# EAGLE library part STM32F051R (library ELL-i-DigitalIC)
STM32F051 in LQPF64 package. STM32F0-series Cortex-M0 microcontroller in 64 lead package. Datasheet <http://www.st.com/web/en/resource/technical/document/datasheet/DM00039193.pdf> (DM00039193.pdf) .
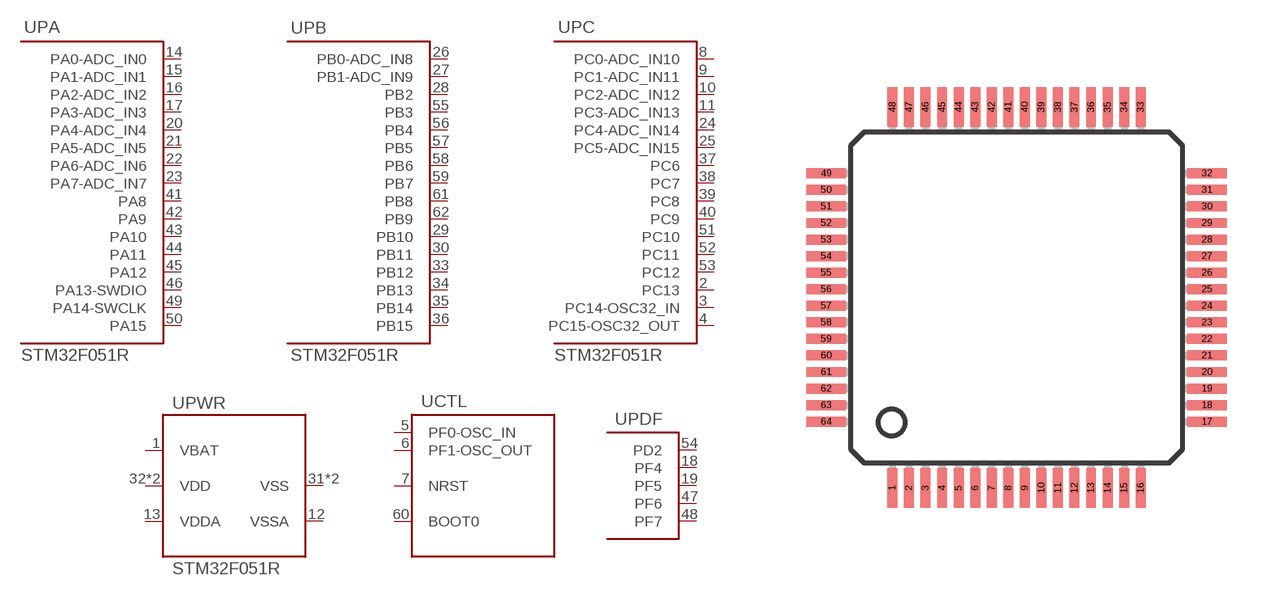
[diagram p4: symbol with the pads of LQFP64; footprint LQFP64]

Designator prefix U; gates PA=STM32-PA PB=STM32-PB PC=STM32-PC PWR=STM32FXXX-PWR CTL=STM32F0XX-CTL PDF=STM32-PDF-LQFP64

## STM32F051R4T (FLASH: 16K), STM32F051R6T (FLASH: 32K), STM32F051R8T (FLASH: 64K)  [LQFP64]
1  PWR:VBAT  pwr
2  PC:PC13
3  PC:PC14-OSC32_IN
4  PC:PC15-OSC32_OUT
5  CTL:PF0-OSC_IN
6  CTL:PF1-OSC_OUT
7  CTL:NRST
8  PC:PC0-ADC_IN10
9  PC:PC1-ADC_IN11
10  PC:PC2-ADC_IN12
11  PC:PC3-ADC_IN13
12  PWR:VSSA  pwr
13  PWR:VDDA  pwr
14  PA:PA0-ADC_IN0
15  PA:PA1-ADC_IN1
16  PA:PA2-ADC_IN2
17  PA:PA3-ADC_IN3
18  PDF:PF4
19  PDF:PF5
20  PA:PA4-ADC_IN4
21  PA:PA5-ADC_IN5
22  PA:PA6-ADC_IN6
23  PA:PA7-ADC_IN7
24  PC:PC4-ADC_IN14
25  PC:PC5-ADC_IN15
26  PB:PB0-ADC_IN8
27  PB:PB1-ADC_IN9
28  PB:PB2
29  PB:PB10
30  PB:PB11
31  PWR:VSS  pwr
32  PWR:VDD  pwr
33  PB:PB12
34  PB:PB13
35  PB:PB14
36  PB:PB15
37  PC:PC6
38  PC:PC7
39  PC:PC8
40  PC:PC9
41  PA:PA8
42  PA:PA9
43  PA:PA10
44  PA:PA11
45  PA:PA12
46  PA:PA13-SWDIO
47  PDF:PF6
48  PDF:PF7
49  PA:PA14-SWCLK
50  PA:PA15
51  PC:PC10
52  PC:PC11
53  PC:PC12
54  PDF:PD2
55  PB:PB3
56  PB:PB4
57  PB:PB5
58  PB:PB6
59  PB:PB7
60  CTL:BOOT0
61  PB:PB8
62  PB:PB9
63  PWR:VSS  pwr
64  PWR:VDD  pwr

## Footprint LQFP64 (pad centres in mm)
64 leads Low Profile Quad Flat Package (LQFP) 10x10 mm, 0.5 mm pitch. Wikipedia article on QFPs <https://en.wikipedia.org/wiki/LQFP>
smd 0.3 x 1.2: 1 -3.75,-5.75; 2 -3.25,-5.75; 3 -2.75,-5.75; 4 -2.25,-5.75; 5 -1.75,-5.75; 6 -1.25,-5.75; 7 -0.75,-5.75; 8 -0.25,-5.75; 9 0.25,-5.75; 10 0.75,-5.75; 11 1.25,-5.75; 12 1.75,-5.75; 13 2.25,-5.75; 14 2.75,-5.75; 15 3.25,-5.75; 16 3.75,-5.75; 33 3.75,5.75; 34 3.25,5.75; 35 2.75,5.75; 36 2.25,5.75; 37 1.75,5.75; 38 1.25,5.75; 39 0.75,5.75; 40 0.25,5.75; 41 -0.25,5.75; 42 -0.75,5.75; 43 -1.25,5.75; 44 -1.75,5.75; 45 -2.25,5.75; 46 -2.75,5.75; 47 -3.25,5.75; 48 -3.75,5.75
smd 1.2 x 0.3: 17 5.75,-3.75; 18 5.75,-3.25; 19 5.75,-2.75; 20 5.75,-2.25; 21 5.75,-1.75; 22 5.75,-1.25; 23 5.75,-0.75; 24 5.75,-0.25; 25 5.75,0.25; 26 5.75,0.75; 27 5.75,1.25; 28 5.75,1.75; 29 5.75,2.25; 30 5.75,2.75; 31 5.75,3.25; 32 5.75,3.75; 49 -5.75,3.75; 50 -5.75,3.25; 51 -5.75,2.75; 52 -5.75,2.25; 53 -5.75,1.75; 54 -5.75,1.25; 55 -5.75,0.75; 56 -5.75,0.25; 57 -5.75,-0.25; 58 -5.75,-0.75; 59 -5.75,-1.25; 60 -5.75,-1.75; 61 -5.75,-2.25; 62 -5.75,-2.75; 63 -5.75,-3.25; 64 -5.75,-3.75